# Altium schematic symbol library Interface - Drivers, Receivers, Transceivers.SchLib: 2 symbols
Pins are listed as number, name and electrical type; pins without a type are passive.

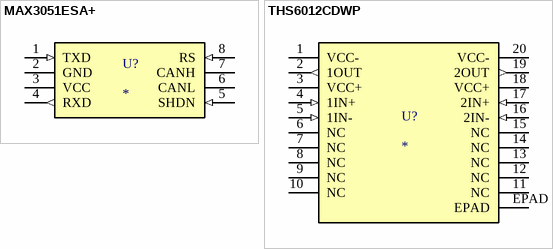
[diagram p0: symbols MAX3051ESA+ to THS6012CDWP]

## MAX3051ESA+
designator U?
IC TRANSCEIVER HALF 1/1 8SOIC; Supplier 1: Digi-Key; Supplier 2: Mouser; Supplier 3: Farnell; Supplier Part Number 1: MAX3051ESA+-ND; Supplier Part Number 2: 700-MAX3051ESA; Supplier Part Number 3: 2519163
footprint MAXIM_8-SOIC
pins: 1 TXD (in), 2 GND (power), 3 VCC (power), 4 RXD (out), 5 SHDN (in), 6 CANL, 7 CANH, 8 RS (in)

## THS6012CDWP
designator U?
IC DRIVER 2/0 20SOPWRPAD; Supplier 1: Digi-Key; Supplier 2: Farnell; Supplier 3: Mouser; Supplier 4: Arrow Electronics; Supplier Part Number 1: 296-2372-5-ND; Supplier Part Number 2: 3005900; Supplier Part Number 3: 595-THS6012CDWP; Supplier Part Number 4: THS6012CDWP
footprint TI_20-SO-POWERPAD
pins: 1 VCC- (power), 2 1OUT (out), 3 VCC+ (power), 4 1IN+ (in), 5 1IN- (in), 6 NC, 7 NC, 8 NC, 9 NC, 10 NC, 11 NC, 12 NC, 13 NC, 14 NC, 15 NC, 16 2IN- (in), 17 2IN+ (in), 18 VCC+ (power), 19 2OUT (out), 20 VCC- (power), EPAD